# Altium schematic symbol library KILEX LIB SCH.SchLib: 37 symbols
Pins are listed as number, name and electrical type; pins without a type are passive.

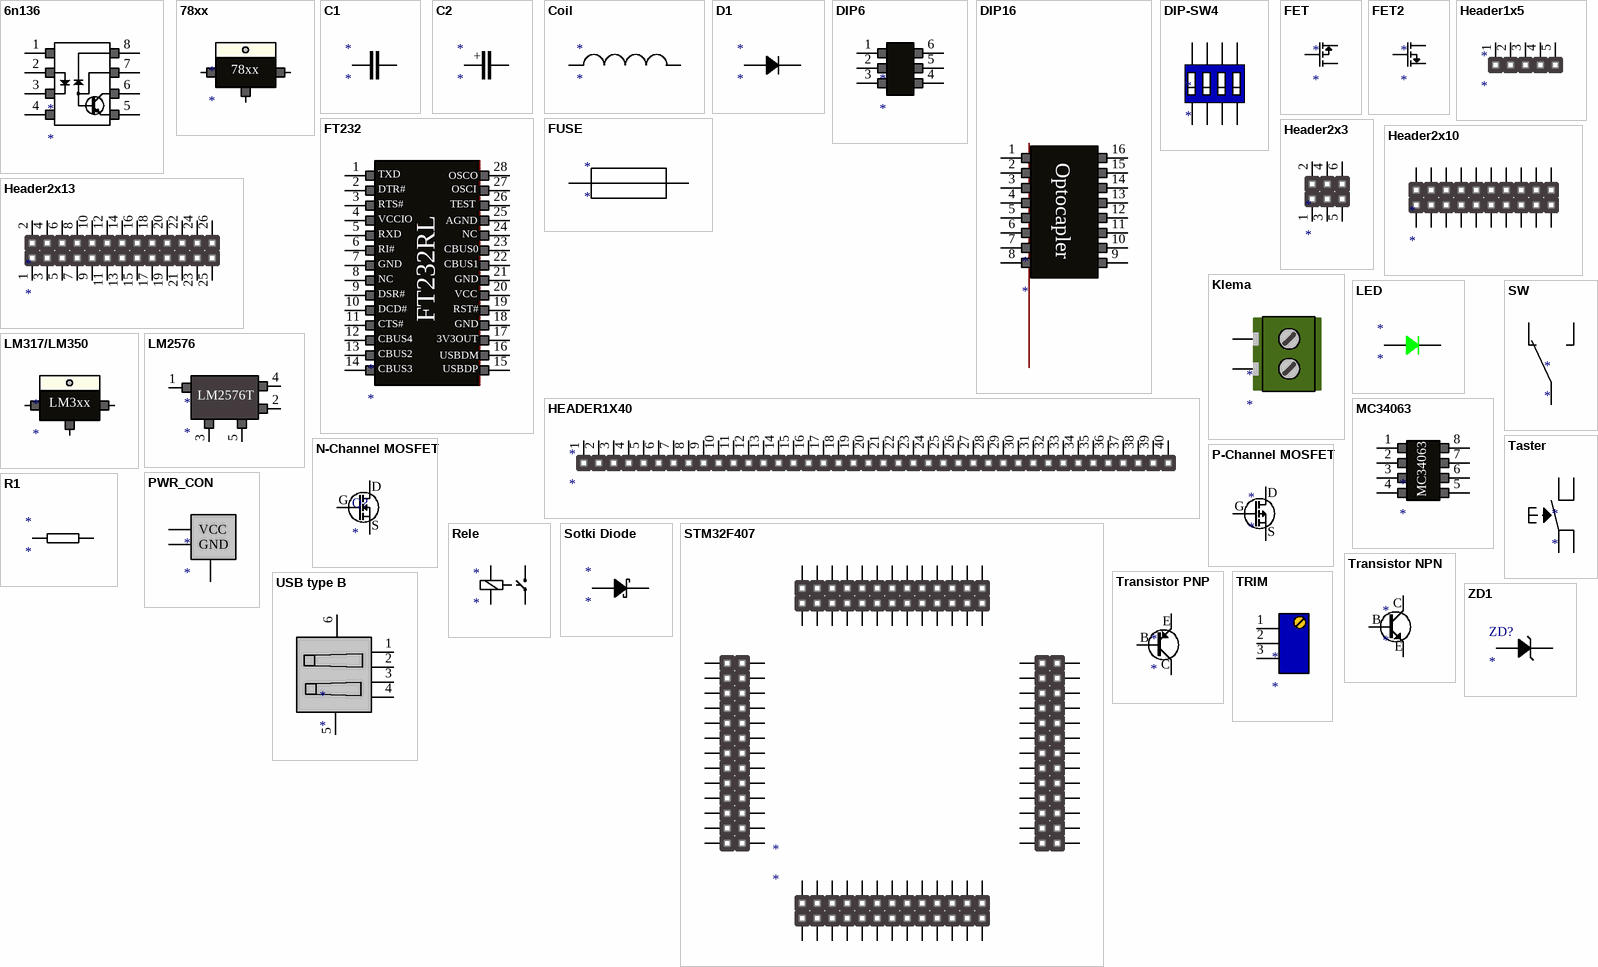
[diagram p0: symbols 6n136 to ZD1]

## 6n136
designator *
footprint DIP8
pins: 1, 2, 3, 4, 5, 6, 7, 8

## 78xx
designator *
pins: 1, 2, 3

## C1
designator *
footprint C1(150milsa)
footprint C2(elektrolit)
pins: 1, 2

## C2
designator *
footprint C2(elektrolit)
pins: 1, 2
text: +

## Coil
designator *
pins: 1, 2

## D1
designator *
footprint D1(300milsa)
pins: 1, 2

## DIP6
designator *
footprint DIP6
pins: 1, 2, 3, 4, 5, 6

## DIP16
designator *
footprint DIP16
pins: 1, 2, 3, 4, 5, 6, 7, 8, 9, 10, 11, 12, 13, 14, 15, 16
text: Optocapler

## DIP-SW4
designator *
footprint DIP-SW4
pins: 1, 2, 3, 4, 5, 6, 7, 8

## FET
designator *
footprint FET
pins: 1, 2, 3

## FET2
designator *
footprint FET
pins: 1, 2, 3

## FT232
designator *
footprint FT232RL
pins: 1, 2, 3, 4, 5, 6, 7, 8, 9, 10, 11, 12, 13, 14, 15, 16, 17, 18, 19, 20, 21, 22, 23, 24, 25, 26, 27, 28
text: TXD; OSCO; DTR#; OSCI; RTS#; TEST; VCCIO; AGND; RXD; NC; RI#; CBUS0; GND; CBUS1; DSR#; VCC; DCD#; RST#; FT232RL; CTS#; CBUS4; 3V3OUT; CBUS2; USBDM; CBUS3; USBDP

## FUSE
designator *
footprint Osigurac
pins: 1, 2

## Header1x5
designator *
footprint Header1x5
pins: 1, 2, 3, 4, 5

## HEADER1X40
designator *
footprint Header1x40
pins: 1, 2, 3, 4, 5, 6, 7, 8, 9, 10, 11, 12, 13, 14, 15, 16, 17, 18, 19, 20, 21, 22, 23, 24, 25, 26, 27, 28, 29, 30, 31, 32, 33, 34, 35, 36, 37, 38, 39, 40

## Header2x3
designator *
footprint Header2x6
pins: 1, 2, 3, 4, 5, 6

## Header2x10
designator *
footprint HEADER2x10
pins: 1, 2, 3, 4, 5, 6, 7, 8, 9, 10, 11, 12, 13, 14, 15, 16, 17, 18, 19, 20

## Header2x13
designator *
pins: 1, 2, 3, 4, 5, 6, 7, 8, 9, 10, 11, 12, 13, 14, 15, 16, 17, 18, 19, 20, 21, 22, 23, 24, 25, 26

## Klema
designator *
pins: 1, 2

## LED
designator *
footprint LED(3mm)
pins: 1, 2

## LM317/LM350
designator *
footprint TO220
pins: 1, 2, 3
text: LM3xx

## LM2576
designator *
pins: 1, 2, 3, 4, 5
text: LM2576T

## MC34063
designator *
pins: 1, 2, 3, 4, 5, 6, 7, 8

## N-Channel MOSFET
designator Q?
footprint N-Channel MOSFET
pins: 1, 2, 3
text: D; G; S

## P-Channel MOSFET
designator *
pins: 1, 2, 3
text: D; G; S

## PWR_CON
designator *
footprint Power
pins: 1 VCC, 2 GND, 3 GND

## R1
designator *
footprint R1(200milsa)
footprint R1(300milsa)
pins: 1, 2

## Rele
designator *
pins: 1, 2, 3, 4

## Sotki Diode
designator *
pins: 1, 2

## STM32F407
designator *
footprint STM32F407VG(ethernet)
pins: 1, 2, 3, 4, 5, 6, 7, 8, 9, 10, 11, 12, 13, 14, 15, 16, 17, 18, 19, 20, 21, 22, 23, 24, 25, 26, 27, 28, 29, 30, 31, 32, 33, 34, 35, 36, 37, 38, 39, 40, 41, 42, 43, 44, 45, 46, 47, 48, 49, 50, 51, 52, 53, 54, 55, 56, 57, 58, 59, 60, 61, 62, 63, 64, 65, 66, 67, 68, 69, 70, 71, 72, 73, 74, 75, 76, 77, 78, 79, 80, 81, 82, 83, 84, 85, 86, 87, 88, 89, 90, 91, 92, 93, 94, 95, 96, 97, 98, 99, 100, 101, 102, 103, 104

## SW
designator *
footprint Prekidac
pins: 1, 2, 3

## Taster
designator *
footprint Taster
pins: 1, 2, 3, 4

## Transistor NPN
designator *
pins: 1, 2, 3
text: C; B; E

## Transistor PNP
designator *
pins: 1, 2, 3
text: E; B; C

## TRIM
designator *
footprint TRIM
pins: 1, 2, 3

## USB type B
designator *
footprint USB_B
pins: 1, 2, 3, 4, 5, 6

## ZD1
designator ZD?
pins: 1, 2